# Altium integrated library Capacitors_Misc.IntLib: 3 symbols
Pins are listed as number, name and electrical type; pins without a type are passive.

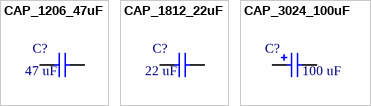
[diagram p0: symbols CAP_1206_47uF to CAP_3024_100uF]

## CAP_1206_47uF
designator C?, comment 47 uF
CAP CER 47UF 16V 20% X5R 1206; Manufacturer: TDK Corporation; Manufacturer Part Number: C3216X5R1C476M160AB; Capacitance: 47µF; Supplier 1: Digi-Key; RoHS: RoHS Compliant; Category: Capacitors; Stock 1: 76809; Pricing 1: 1=1.24, 10=1.034, 100=0.66, 250=0.55, 500=0.495, 1000=0.451 (USD); Packaging: Cut Tape (CT); Voltage - Rated: 16V; Tolerance: ±20%; Temperature Coefficient: X5R; Mounting Type: Surface Mount, MLCC; Operating Temperature: -55°C ~ 85°C; Applications: General Purpose; Ratings: -; Package / Case: 1206 (3216 Metric); Size / Dimension: 0.126" L x 0.063" W (3.20mm x 1.60mm); Height - Seated (Max): -; Thickness (Max): 0.071" (1.80mm); Lead Spacing: -; Features: -; Lead Style: -; ComponentLink1URL: http://product.tdk.com/capacitor/mlcc/en/documents/mlcc_commercial_general_en.pdf; ComponentLink1Description: http://product.tdk.com/capacitor/mlcc/en/documents/mlcc_commercial_general_en.pdf; Supplier Part Number 1: 445-6003-1-ND
footprint CAPC3116X18N(1206) (Chip Capacitor, 2-Leads, Body 3.1x1.6mm, IPC Medium Density)
pins: 1, 2

## CAP_1812_22uF
designator C?, comment 22 uF
CAP CER 22UF 25V 20% X5R 1812; Manufacturer: TDK Corporation; Manufacturer Part Number: C4532X5R1E226M250KA; Capacitance: 22µF; Supplier 1: Digi-Key; RoHS: RoHS Compliant; Category: Capacitors; Stock 1: 133717; Pricing 1: 1=1.5, 10=1.23, 100=0.87, 250=0.72 (USD); Packaging: Cut Tape (CT); Voltage - Rated: 25V; Tolerance: ±20%; Temperature Coefficient: X5R; Mounting Type: Surface Mount, MLCC; Operating Temperature: -55°C ~ 85°C; Applications: General Purpose; Ratings: -; Package / Case: 1812 (4532 Metric); Size / Dimension: 0.177" L x 0.126" W (4.50mm x 3.20mm); Height - Seated (Max): -; Thickness (Max): 0.110" (2.80mm); Lead Spacing: -; Features: -; Lead Style: -; ComponentLink1URL: http://product.tdk.com/capacitor/mlcc/en/documents/mlcc_commercial_general_en.pdf; ComponentLink1Description: http://product.tdk.com/capacitor/mlcc/en/documents/mlcc_commercial_general_en.pdf; Supplier Part Number 1: 445-1444-1-ND
footprint CAPC4532X25N(1812) (Chip Capacitor, 2-Leads, Body 4.5x3.2mm, IPC Medium Density)
pins: 1, 2

## CAP_3024_100uF
designator C?, comment 100 uF
Tantalum Capacitors - Solid SMD 100uF 35volts 20% F case Conformal; Manufacturer: Vishay / Sprague; Manufacturer Part Number: 597D107X0035F2T; Mfr Case Code: F Case; Voltage Rating: 35 V; ESR: 100 mOhms; Dissipation Factor DF: 8; Supplier 1: Mouser; RoHS: RoHS Compliant; Category: Tantalum Capacitors - Solid SMD; Stock 1: 1267; Pricing 1: 1=12.93, 10=12.10, 25=11.73, 100=10.42, 250=6.05, 500=5.74, 1000=5.31 (AUD); Capacitance: 100 uF; Dimensions: 6 mm W x 7.6 mm L; Height: 4.7 mm; Operating Temperature Range: - 55 C to + 85 C; Packaging: Reel; Product: Tantalum Solid Low ESR Standard Grade; Termination Style: SMD/SMT; Tolerance: 20 %; Product Category: Low ESR Solid Tantalum Chip Capacitors; RoHS - Mouser: Y; Minimum Order Quantity: 1; Reeling: True; ComponentLink1URL: http://www.mouser.com/ds/2/427/597d-239913.pdf; ComponentLink1Description: http://www.mouser.com/ds/2/427/597d-239913.pdf; Supplier Part Number 1: 71-597D107X0035F2T
footprint Cap_Pol_3024 (Chip Capacitor, 2-Leads, Body 6.2x6.0mm, IPC Medium Density)
pins: 1, 2